# EAGLE library part 12214-8250-00FR (library other)
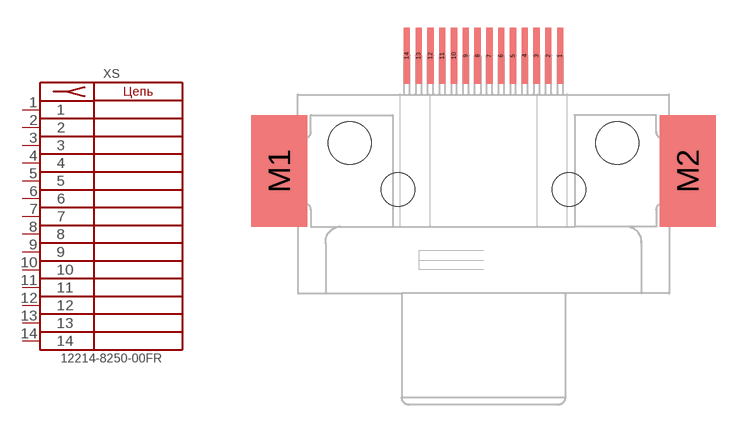
[diagram p10: symbol with the pads of 12214-8250-00FR; footprint 12214-8250-00FR]

Designator prefix XS

## 12214-8250-00FR  [12214-8250-00FR]
1  1  pas
2  2  pas
3  3  pas
4  4  pas
5  5  pas
6  6  pas
7  7  pas
8  8  pas
9  9  pas
10  10  pas
11  11  pas
12  12  pas
13  13  pas
14  14  pas

## Footprint 12214-8250-00FR (pad centres in mm)
smd 0.335 x 3: 1 4.128,7.62; 2 3.493,7.62; 3 2.857,7.62; 4 2.223,7.62; 5 1.587,7.62; 6 0.953,7.62; 7 0.318,7.62; 8 -0.318,7.62; 9 -0.953,7.62; 10 -1.587,7.62; 11 -2.223,7.62; 12 -2.857,7.62; 13 -3.493,7.62; 14 -4.128,7.62
smd 3 x 6: M1 -11,1.42; M2 11,1.42
hole 1.8 at 4.6,0.42
hole 1.8 at -4.6,0.42
hole 2.3 at 7.2,2.92
hole 2.3 at -7.2,2.92